# EAGLE library part MAX32660 (library ringRemote)
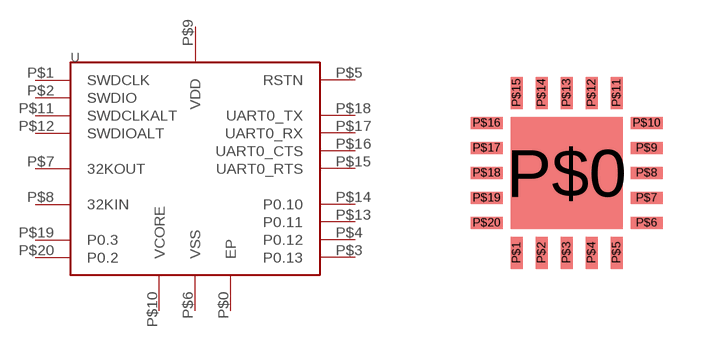
[diagram p2: symbol with the pads of T2044+5C; footprint T2044+5C]

Designator prefix -

## MAX32660  [T2044+5C]
P$0  EP  pwr
P$1  SWDCLK
P$2  SWDIO
P$3  P0.13
P$4  P0.12
P$5  RSTN
P$6  VSS  pwr
P$7  32KOUT  out
P$8  32KIN  in
P$9  VDD  pwr
P$10  VCORE  pwr
P$11  SWDCLKALT
P$12  SWDIOALT
P$13  P0.11
P$14  P0.10
P$15  UART0_RTS
P$16  UART0_CTS
P$17  UART0_RX
P$18  UART0_TX
P$19  P0.3
P$20  P0.2

## Footprint T2044+5C (pad centres in mm)
smd 2.8 x 2.8: P$0 0,0
smd 0.3 x 0.8: P$1 -1.25,-2; P$2 -0.625,-2; P$3 0,-2; P$4 0.625,-2; P$5 1.25,-2; P$11 1.25,2; P$12 0.625,2; P$13 0,2; P$14 -0.625,2; P$15 -1.25,2
smd 0.8 x 0.3: P$6 2,-1.25; P$7 2,-0.625; P$8 2,0; P$9 2,0.625; P$10 2,1.25; P$16 -2,1.25; P$17 -2,0.625; P$18 -2,0; P$19 -2,-0.625; P$20 -2,-1.25